# Altium schematic symbol library Sensors_SchematicLib.SCHLIB: 18 symbols
Pins are listed as number, name and electrical type; pins without a type are passive.

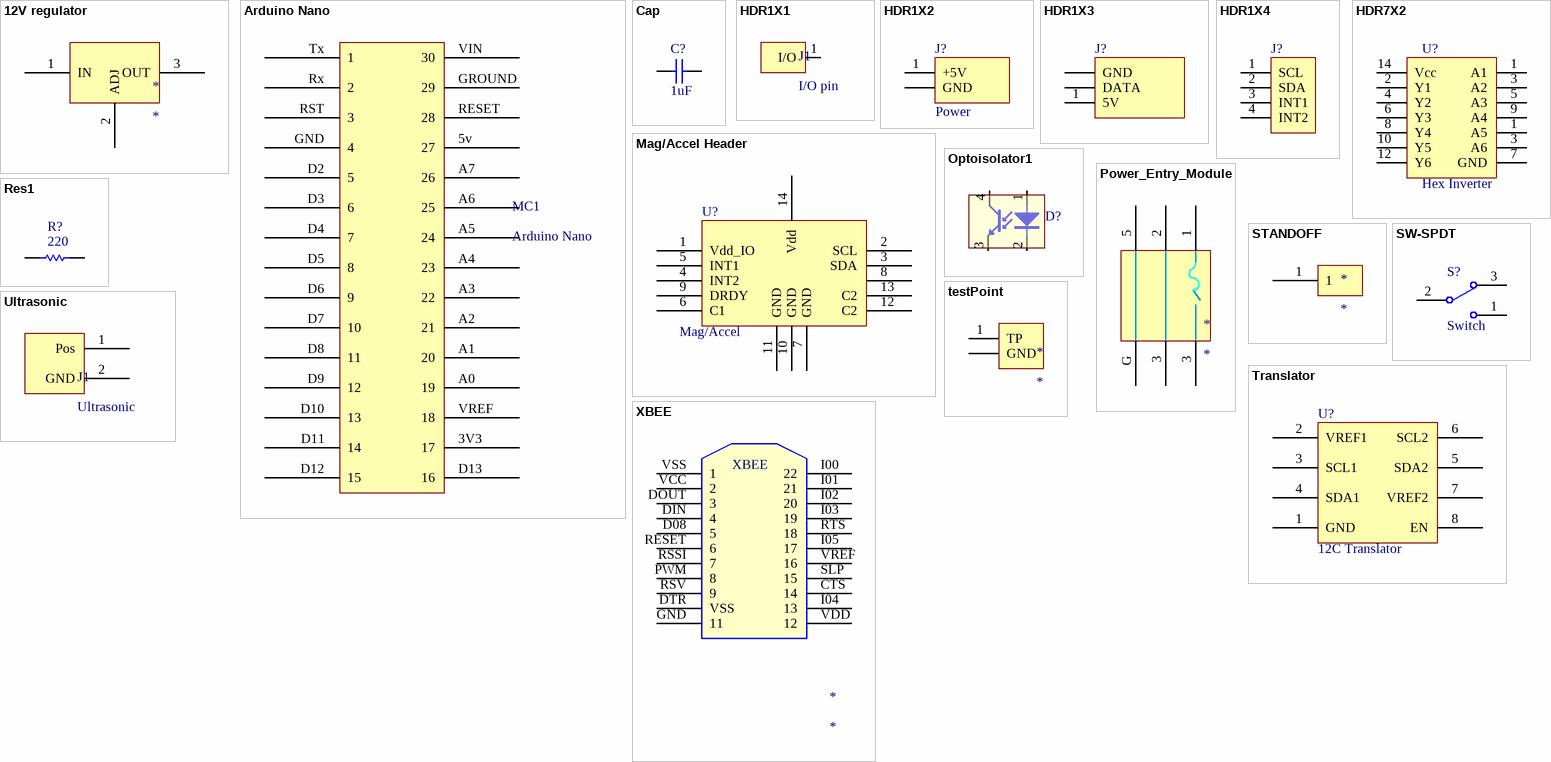
[diagram p0: symbols 12V regulator to XBEE]

## 12V regulator
designator *
footprint 5v Regulator
pins: 1 IN, 2 ADJ, 3 OUT

## Arduino Nano
designator MC1
footprint Arduino Nano (30 pin breakout)
pins: 3V3 17, 5v 27, A0 19, A1 20, A2 21, A3 22, A4 23, A5 24, A6 25, A7 26, D2 5, D3 6, D4 7, D5 8, D6 9, D7 10, D8 11, D9 12, D10 13, D11 14, D12 15, D13 16, GND 4, GROUND 29, RESET 28, RST 3, Rx 2, Tx 1, VIN 30, VREF 18

## Cap
designator C?  value 1uF
CAP CER 1UF 25V 10% X7R 1206; Published: 8-Jun-2000; LatestRevisionDate: 17-Jul-2002; LatestRevisionNote: Re-released for DXP Platform.; PackageReference: RAD-0.3; Publisher: Altium Limited; PackageDescription: 1206; Supplier 1: Digi-Key; Supplier Part Number 1: 445-1592-1-ND
simulation model CAP (Capacitor)
signal-integrity model Cap
footprint CAPC3216X18M (Chip Capacitor, 2-Leads, Body 3.20x1.60mm, IPC Low Density)
footprint capacitor_3d (3d model for through hole capacitor)
pins: 1, 2

## HDR1X1
designator J1, comment I/O pin
footprint HDR1 (1 pin header)
footprint header_1 (3d model for single header)
pins: 1 I/O "Arduino I/O pin"

## HDR1X2
designator J?, comment Power
CONN HEADER VERT 2POS .100 TIN; LatestRevisionDate: 17-Jul-2002; LatestRevisionNote: Re-released for DXP Platform.; Publisher: Altium Limited; Supplier 1: Digi-Key; Supplier Part Number 1: A1921-ND; PackageDescription: SIP-2
footprint HDR1X2 (Connector; Header; 2 Position)
signal-integrity model Connector
pins: 1 +5V, 2 GND

## HDR1X3
designator J?  (value not drawn)
CONN HEADER VERT 3POS .100 TIN; LatestRevisionDate: 17-Jul-2002; LatestRevisionNote: Re-released for DXP Platform.; Publisher: Altium Limited; Supplier 1: Digi-Key; Supplier Part Number 1: A19470-ND; PackageDescription: SIP-3
signal-integrity model Connector
footprint HDR1X3_v (vertical bottom insert)
pins: 1 5V, 2 DATA, 3 GND

## HDR1X4
designator J?  (value not drawn)
CONN HEADER 4POS .100 STR TIN; LatestRevisionDate: 17-Jul-2002; LatestRevisionNote: Re-released for DXP Platform.; Publisher: Altium Limited; Supplier 1: Digi-Key; Supplier Part Number 1: 609-3305-ND; PackageDescription: SIP-4
footprint HDR1X4 (Connector; Header; 4 Position)
signal-integrity model Connector
pins: 1 SCL, 2 SDA, 3 INT1, 4 INT2

## HDR7X2
designator U?, comment Hex Inverter
IC TRIGGER HEX INVERT 14-SOIC; LatestRevisionDate: 17-Jul-2002; LatestRevisionNote: Re-released for DXP Platform.; Publisher: Altium Limited; Supplier 1: Digi-Key; Supplier Part Number 1: MM74HC14M-ND; PackageDescription: 14-SOIC
footprint HDR2X7_CEN (Connector; Header; 7x2 Position)
signal-integrity model Connector
pins: 1 A1, 1 A5, 2 Y1, 3 A2, 3 A6, 4 Y2, 5 A3, 6 Y3, 7 GND, 8 Y4, 9 A4, 10 Y5, 12 Y6, 14 Vcc

## Mag/Accel Header
designator U?, comment Mag/Accel
ACCELEROMETER/MAGNETOMETER LGA14; Supplier 1: Digi-Key; Supplier Part Number 1: 497-11918-1-ND; PackageDescription: LGA-14
pins: 1 Vdd_IO, 2 SCL, 3 SDA, 4 INT2, 5 INT1, 6 C1, 7 GND, 8, 9 DRDY, 10 GND, 11 GND, 12 C2, 13 C2, 14 Vdd

## Optoisolator1
designator D?, comment Optoisolator(custom)  (value not drawn)
SENSOR OPTO TRANS 15MM REFL PCB; Published: 24-Mar-1999; LatestRevisionDate: 04-Mar-2005; LatestRevisionNote: Sch pins 3 & 4 Swapped.; DatasheetVersion: Nov-2003; PackageDescription: DIP-4; Publisher: Altium Limited; Supplier 1: Digi-Key; Supplier Part Number 1: 751-1033-5-ND
footprint DIP-4 (DIP; 4 Leads; Row Spacing 7.62 mm; Pitch 2.54 mm)
pins: 1 A "Anode", 2 K "Cathode", 3 E "Emitter", 4 C "Collector"

## Power_Entry_Module
designator *
pins: 1, 2, 3, 3, 5, G

## Res1
designator R?  value 220  (hidden comment: Res1)
RES 300 OHM 1/4W 1% 1206 SMD; Published: 8-Jun-2000; LatestRevisionDate: 17-Jul-2002; LatestRevisionNote: Re-released for DXP Platform.; PackageReference: AXIAL-0.3; Publisher: Altium Limited; PackageDescription: 1206; Supplier 1: Digi-Key; Supplier Part Number 1: 311-300FRCT-ND
footprint FTPNT_RESISTORS (Chip Resistor, 2-Leads, Body 3.10x1.60mm, IPC Low Density)
simulation model RESISTOR (Resistor)
signal-integrity model Res
footprint resistor_3d (3d model for through hole resistor)
pins: 1, 2

## STANDOFF
designator *
footprint standoff (3d model of quarter inch diameter stand off)
pins: 1 "quarter inch standoff"

## SW-SPDT
designator S?, comment Switch
SW .1A LEVER PC MNT 50GF 125V; Published: 24-Mar-1999; LatestRevisionDate: 17-Dec-2003; LatestRevisionNote: Schematic revised, PCB Footprint replaced.; DatasheetVersion: 05-Dec-2000; PackageReference: TL36WW15050; Publisher: Altium Limited; PackageDescription: Switch; 3 Leads; ComponentLink1Description: Manufacturer Link; ComponentLink1URL: http://www.apem.com; Supplier 1: Digi-Key; Supplier Part Number 1: SW240-ND
footprint TL36WW15050 (Switch; 4 Leads)
pins: 1, 2, 3

## testPoint
designator *
footprint test point_3d (3d model of a 2pin  vertical header)
pins: 1 TP, 2 GND

## Translator
designator U?, comment 12C Translator
IC LEVEL TRANSLATOR 8-SOIC; Supplier 1: Digi-Key; Supplier Part Number 1: 568-4215-1-ND; PackageDescription: 8-SOIC
pins: 1 GND, 2 VREF1, 3 SCL1, 4 SDA1, 5 SDA2, 6 SCL2, 7 VREF2, 8 EN

## Ultrasonic
designator J1
footprint Ultrasonic (Ultrasonic Rx/Tx)
pins: 1 Pos, 2 GND

## XBEE
designator *
footprint XBEE breakout board
pins: CTS 14, D08 5, DIN 4, DOUT 3, DTR VSS, GND 11, I00 22, I01 21, I02 20, I03 19, I04 13, I05 17, PWM 8, RESET 6, RSSI 7, RSV 9, RTS 18, SLP 15, VCC 2, VDD 12, VREF 16, VSS 1